# EAGLE library part 418117170907 (library EAGLE-TACT_SWITCHES-rev17c)
2.54 mm compact THT with flat actuator WS-DITV, 7 Pole <http://katalog.we-online.de/media/images/v2/Family_WS-DITV_4181171709xx.jpg> Details see: http://katalog.we-online.de/en/em/DITV_2_54_COMPACT_THT_WITH_FLAT_ACTUATOR 2015 (C) Wurth Elektroni
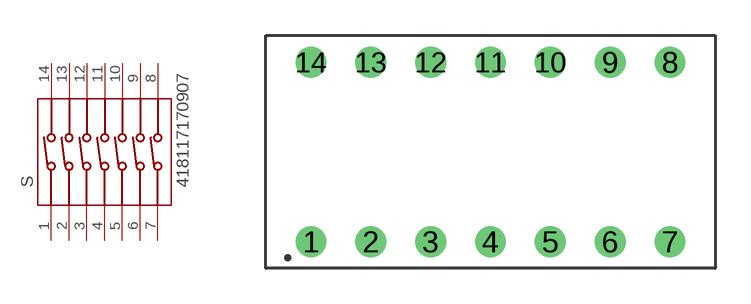
[diagram p82: symbol with the pads of 418117170907; footprint 418117170907]

Designator prefix S

## 418117170907  [418117170907]
1  1  pas
2  2  pas
3  3  pas
4  4  pas
5  5  pas
6  6  pas
7  7  pas
8  8  pas
9  9  pas
10  10  pas
11  11  pas
12  12  pas
13  13  pas
14  14  pas

## Footprint 418117170907 (pad centres in mm)
WS-BS 2.54 mm compact THT Dip Switch with flat actuator, 7 Pole
drill 0.8: 1 -7.62,-3.81; 2 -5.08,-3.81; 3 -2.54,-3.81; 4 0,-3.81; 5 2.54,-3.81; 6 5.08,-3.81; 7 7.62,-3.81; 8 7.62,3.81; 9 5.08,3.81; 10 2.54,3.81; 11 0,3.81; 12 -2.54,3.81; 13 -5.08,3.81; 14 -7.62,3.81